# Altium footprint library DIOD-SMA.PcbLib: 1 footprints
Each footprint in its own frame and in the unit in brackets; x right, y up, seen from the top. Pads: shape width x height; smd on the part's side, far side on the other; paste and mask are expansions set on the pad; w line width, h text height; cw(c..) or ccw(c..) is an arc to the next point about the centre after c.
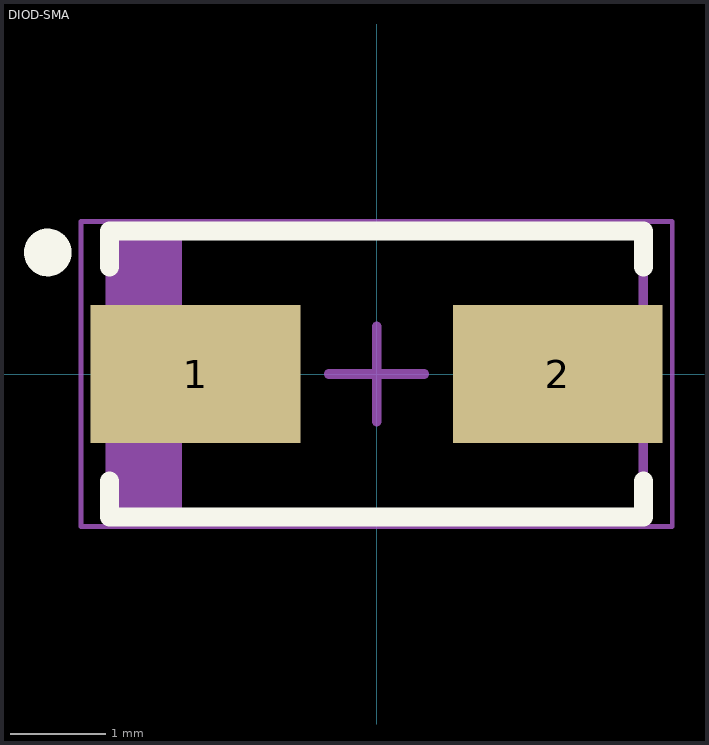
[diagram p0: the footprint, top view; thin cyan lines are the x and y axes]

## DIOD-SMA [mm]
height 2.3
pads (2):
  rect 2.2x1.45 smd: 1(-1.9,0) 2(1.9,0)
Top Overlay:
  circle w0.25: c-3.45,1.275 r0.125
  lines w0.2: -2.8,-1.125 -2.8,-1.5 2.8,-1.5 2.8,-1.125 ; -2.8,1.125 -2.8,1.5 2.8,1.5 2.8,1.125
Mechanical 13:
  rectangle: -2.795,-1.46 -2.043,1.46
  lines w0.1: -2.795,-1.46 2.795,-1.46 2.795,1.46 -2.795,1.46 -2.795,-1.46
Mechanical 15:
  lines w0.05: -3.1,-1.6 3.1,-1.6 3.1,1.6 -3.1,1.6 -3.1,-1.6
  lines w0.1: -0.5,0 0.5,0 ; 0,-0.5 0,0.5
3D body: height 2.6, standoff 0.03, extent -2.75,-1.4 2.75,1.4